# Altium schematic symbol library DCDC.SchLib: 6 symbols
Pins are listed as number, name and electrical type; pins without a type are passive.

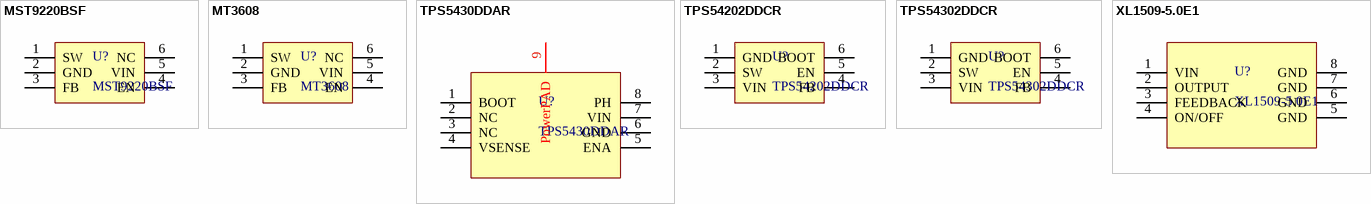
[diagram p0: symbols MST9220BSF to XL1509-5.0E1]

## MST9220BSF
designator U?
MST(迈尔斯通) 1.2MHz 2A 输出电流升压转换器; 封装: SOT-23-6; 类别: DCDC; 子类别: 升压DCDC; 工作电压: 2.5V~6V; 输出电压: 2.5V~10V; 工作温度: -40℃~+85℃; 制造商: MST(迈尔斯通); 输出电流: 2A; 开关频率: 1.2MHz; ComponentLink1Description: 数据据手册; ComponentLink1URL: https://www.mst-ic.com/upload/cn/propdf/MST9220BSF.pdf
footprint MST-SOT236 (SOT23, 6-Leads, Body 2.95x2.80mm, Pitch 0.95mm, IPC Medium Density)
pins: 1 SW, 2 GND, 3 FB, 4 EN, 5 VIN, 6 NC

## MT3608
designator U?
西安航天民芯 老版本 高效1.2MHz 2A升压转换器; 封装: SOT-23-6; 类别: DCDC; 子类别: 升压DCDC; 工作电压: 2V~24V; 输出电流: 2A; 开关频率: 1.2MHz; 工作温度: -40℃~+85℃; 制造商: 西安航天民芯; 输出电压: -; ComponentLink1Description: 数据据手册; ComponentLink1URL: https://www.mst-ic.com/upload/cn/propdf/MST9220BSF.pdf
footprint XAHTMK-SOT236 (西安航天民芯 SOT236 推荐焊盘)
pins: 1 SW, 2 GND, 3 FB, 4 EN, 5 VIN, 6 NC

## TPS5430DDAR
designator U?
TI(德州仪器) 宽输入范围、3A输出电流的降压转换器; 封装: SOIC-8-EP; 类别: DCDC; 子类别: 降压DCDC; 工作电压: 5.5V~36V; 输出电压: 1.221V~32.04V; 输出电流: 3A; 开关频率: 500kHz; 工作温度: -40℃~+125℃@(TJ); 制造商: TI(德州仪器); ComponentLink1Description: 数据据手册; ComponentLink1URL: https://www.ti.com.cn/cn/lit/gpn/TPS5430
footprint TI-SOIC-8-EP (TI(德州仪器) SOIC-8-EP 推荐焊盘 0.125mm钢网)
pins: 1 BOOT, 2 NC, 3 NC, 4 VSENSE, 5 ENA, 6 GND, 7 VIN, 8 PH, 9 PowerPAD

## TPS54202DDCR
designator U?
TI(德州仪器) 4.5V至28V输入、2A输出、低EMI同步降压转换器; 封装: SOT-23-6; 类别: DCDC; 子类别: 降压DCDC; 工作电压: 4.5V~28V; 输出电压: –0.1V~28V; 输出电流: 2A; 开关频率: 500kHz; 工作温度: -40℃~+125℃@(TJ); 制造商: TI(德州仪器); ComponentLink1Description: 数据据手册; ComponentLink1URL: https://www.mst-ic.com/upload/cn/propdf/MST9220BSF.pdf
footprint TI-TSOP23-6
pins: 1 GND, 2 SW, 3 VIN, 4 FB, 5 EN, 6 BOOT

## TPS54302DDCR
designator U?
TI(德州仪器) 4.5V至28V输入、3A输出、EMI友好的同步降压转换器; 封装: SOT-23-6; 类别: DCDC; 子类别: 降压DCDC; 工作电压: 4.5V~28V; 输出电压: –0.1V~28V; 输出电流: 3A; 开关频率: 400kHz; 工作温度: -40℃~+125℃@(TJ); 制造商: TI(德州仪器); ComponentLink1Description: 数据据手册; ComponentLink1URL: https://www.mst-ic.com/upload/cn/propdf/MST9220BSF.pdf
footprint TI-TSOP23-6
pins: 1 GND, 2 SW, 3 VIN, 4 FB, 5 EN, 6 BOOT

## XL1509-5.0E1
designator U?
XLSEMI(芯龙) DCDC降压，电源输入30V以上，1A~3A(中电流)方案，; 封装: SOIC-8; 类别: DCDC; 子类别: 降压DCDC; 工作电压: 4.5V~40V; 输出电压: 5V; 输出电流: 2A; 开关频率: 150kHz; 工作温度: -40℃~+85℃; 制造商: XLSEMI(芯龙); ComponentLink1Description: 数据据手册; ComponentLink1URL: https://www.ti.com.cn/cn/lit/gpn/TPS5430
footprint XLSEMI-SOIC8 (SOP, 8-Leads, Body 4.90x3.90mm, Pitch 1.27mm, IPC Medium Density)
pins: 1 VIN, 2 OUTPUT, 3 FEEDBACK, 4 ON/OFF, 5 GND, 6 GND, 7 GND, 8 GND